# EAGLE library part USB-C (library edrtech_lib)
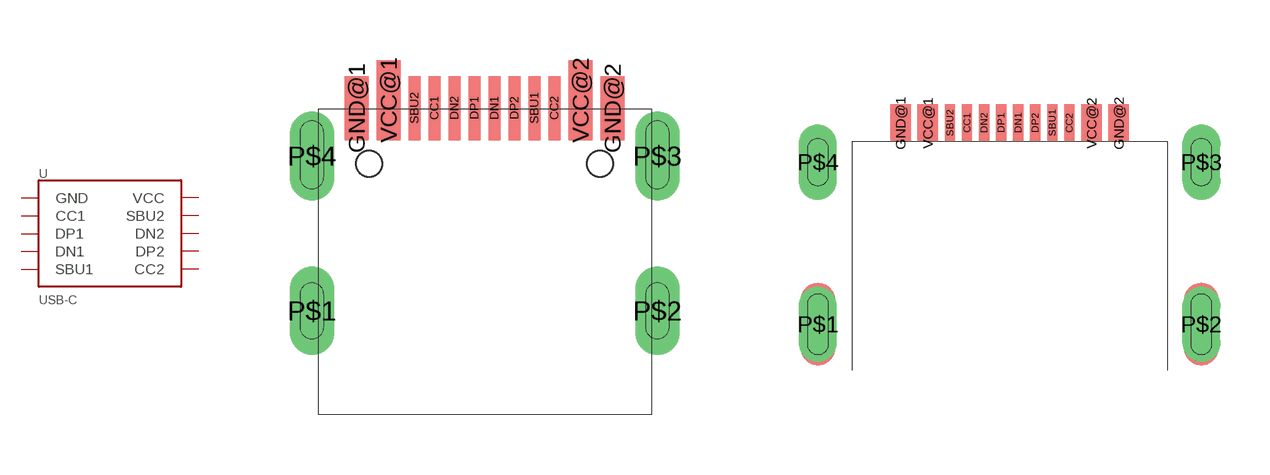
[diagram p2: symbol with the pads of USB-C; footprints USB-C, USB-C_CUT]

Designator prefix -

## USB-C  [USB-C]
CC1  CC1
CC2  CC2
DN1  DN1
DN2  DN2
DP1  DP1
DP2  DP2
GND@1  GND
GND@2  GND
P$1  GND
P$2  GND
P$3  GND
P$4  GND
SBU1  SBU1
SBU2  SBU2
VCC@1  VCC
VCC@2  VCC

## USB-CC_CUT  [USB-C_CUT]
Pads as for USB-C

## Footprint USB-C (pad centres in mm)
smd 0.3 x 1.6: CC1 -1.25,3.88; CC2 1.75,3.88; DN1 0.25,3.88; DN2 -0.75,3.88; DP1 -0.25,3.88; DP2 0.75,3.88; SBU1 1.25,3.88; SBU2 -1.75,3.88
smd 0.6 x 1.6: GND@1 -3.2,3.88; GND@2 3.2,3.88
drill 0.6 pad 1 long: P$1 -4.32,-1.19; P$2 4.32,-1.19; P$3 4.32,2.68; P$4 -4.32,2.68
smd 0.6 x 2: VCC@1 -2.4,4.08; VCC@2 2.4,4.08
hole 0.65 at 2.89,2.49
hole 0.65 at -2.89,2.49

## Footprint USB-C_CUT (pad centres in mm)
smd 0.3 x 1.1: CC1 -1.25,7.25; CC2 1.75,7.25; DN1 0.25,7.25; DN2 -0.75,7.25; DP1 -0.25,7.25; DP2 0.75,7.25; SBU1 1.25,7.25; SBU2 -1.75,7.25
smd 0.6 x 1.1: GND@1 -3.2,7.25; GND@2 3.2,7.25; VCC@1 -2.4,7.25; VCC@2 2.4,7.25
drill 0.6 pad 1 long: P$1 -5.62,1.35; P$2 5.62,1.35; P$3 5.62,6.1; P$4 -5.62,6.1